# Altium schematic symbol library L293DNE.SchLib: 1 symbol
Pins are listed as number, name and electrical type; pins without a type are passive.

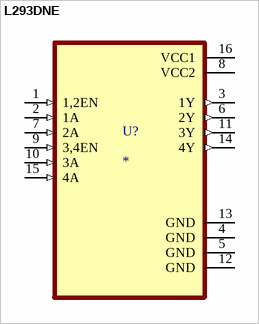
[diagram p0: symbol L293DNE]

## L293DNE
designator U?
MP: L293DNE; MF: {'manufacturer': u'Texas Instruments'}; Value: *; Package: None; Availability: Unavailable; Price: None
footprint DIP762W45P254L1980H508Q16
pins: 1 1,2EN (in), 2 1A (in), 3 1Y (out), 4 GND (power), 5 GND (power), 6 2Y (out), 7 2A (in), 8 VCC2 (power), 9 3,4EN (in), 10 3A (in), 11 3Y (out), 12 GND (power), 13 GND (power), 14 4Y (out), 15 4A (in), 16 VCC1 (power)